# Altium footprint library PCB - LEADLESS - EPC2302.PCBLIB: 1 footprints
Each footprint in its own frame and in the unit in brackets; x right, y up, seen from the top. Pads: shape width x height; smd on the part's side, far side on the other; paste and mask are expansions set on the pad; w line width, h text height; cw(c..) or ccw(c..) is an arc to the next point about the centre after c.
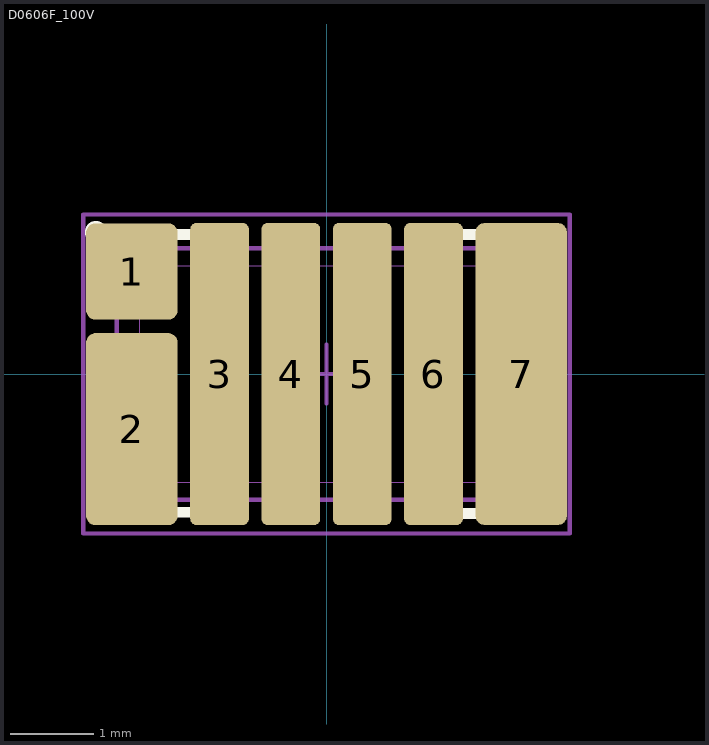
[diagram p0: the footprint, top view; thin cyan lines are the x and y axes]

## D0606F_100V [mm] "QFN3x5 100V Full Die"
height 0.65
pads (34):
  rrect20% 1.091x1.15 smd paste-1 mask-1: 1(-2.321,1.222)
  rrect20% 1.091x2.29 smd paste-1 mask-1: 2(-2.321,-0.658)
  rrect20% 0.7x3.6 smd paste-1 mask-1: 3(-1.275,0) 4(-0.425,0) 5(0.425,0) 6(1.275,0)
  rrect20% 1.091x3.6 smd paste-1 mask-1: 7(2.321,0)
  rrect50% 0.7x0.37 on Top Solder paste-1 mask-1: ""(-2.351,-0.975) ""(-2.351,-0.325) ""(-2.351,0.975) ""(2.351,-0.975) ""(2.351,-0.325) ""(2.351,0.325) ""(2.351,0.975)
  rrect50% 0.76x0.37 on Top Solder paste-1 mask-1: ""(-2.321,0.225)
  rrect50% 0.54x1.78 on Top Paste paste-1 mask-1: ""(-2.275,-0.6)
  rrect50% 0.6x0.72 on Top Paste paste-1 mask-1: ""(-2.275,1.2)
  rrect50% 0.47x2.075 on Top Solder paste-1 mask-1: ""(-2.175,-0.663)
  rrect50% 0.47x0.985 on Top Solder paste-1 mask-1: ""(-2.175,1.207)
  rrect50% 0.26x1.4 on Top Paste paste-1 mask-1: ""(-1.275,-0.85) ""(-1.275,0.85) ""(-0.425,-0.85) ""(-0.425,0.85) ""(0.425,-0.85) ""(0.425,0.85) ""(1.275,-0.85) ""(1.275,0.85)
  rrect50% 0.37x3.4 on Top Solder paste-1 mask-1: ""(-1.275,0) ""(-0.425,0) ""(0.425,0) ""(1.275,0)
  rrect50% 0.47x3.4 on Top Solder paste-1 mask-1: ""(2.175,0)
  rrect50% 0.54x1.4 on Top Paste paste-1 mask-1: ""(2.29,-0.85) ""(2.29,0.85)
Top Overlay:
  circle w0.254: c-2.749,1.69 r0.006
  lines w0.127: -2.722,-1.558 -2.722,-1.273 ; -2.722,1.277 -2.722,1.399 ; -1.794,-1.65 -1.593,-1.65 ; -1.779,1.663 -1.577,1.663 ; 1.577,-1.663 1.778,-1.663 ; 1.577,1.663 1.778,1.663 ; 2.746,-1.646 2.745,-1.302 ; 2.746,1.307 2.746,1.667
Top Assembly:
  lines w0.01: -2.225,-1.29 -2.225,1.29 2.225,1.29 2.225,-1.29 -2.225,-1.29
  lines w0.013: -2.325,1.5 -2.025,1.5 ; -2.235,0.375 -2.115,0.375 ; -2.5,-1.1 -2.4,-1.1 cw(c-2.4,-1.15) -2.35,-1.15 -2.35,-1.5 -2,-1.5 -2,0.275 ccw(c-2.1,0.275) -2.1,0.375 -2.25,0.375 ccw(c-2.25,0.275) -2.316,0.35 -2.5,0.35 -2.5,0.1 -2.4,0.1 cw(c-2.4,0.05) -2.35,0.05 -2.35,-0.15 cw(c-2.4,-0.15) -2.4,-0.2 -2.5,-0.2 -2.5,-0.45 -2.4,-0.45 cw(c-2.4,-0.5) -2.35,-0.5 -2.35,-0.8 cw(c-2.4,-0.8) -2.4,-0.85 -2.5,-0.85 -2.5,-1.1 ; -2.5,0.865 -2.5,1.085 -2.4,1.085 ccw(c-2.4,1.135) -2.35,1.135 -2.35,1.5 -2,1.5 -2,0.94 -2.165,0.775 -2.25,0.775 cw(c-2.25,0.875) -2.349,0.865 -2.5,0.865 ; -2.325,-1.5 -2.025,-1.5 -2.325,-1.5 ; -1.4,-1.5 -1.15,-1.5 -1.15,1.5 -1.4,1.5 -1.4,-1.5 ; -0.55,-1.5 -0.55,1.5 -0.3,1.5 -0.3,-1.5 -0.55,-1.5 ; 0.3,-1.5 0.3,1.5 0.55,1.5 0.55,-1.5 0.3,-1.5 ; 1.15,-1.5 1.15,1.5 1.4,1.5 1.4,-1.5 1.15,-1.5 ; 2,-1.5 2.35,-1.5 2.35,-1.135 cw(c2.385,-1.135) 2.385,-1.1 2.5,-1.1 2.5,-0.85 2.385,-0.85 cw(c2.385,-0.815) 2.35,-0.815 2.35,-0.485 cw(c2.385,-0.485) 2.385,-0.45 2.5,-0.45 2.5,-0.2 2.385,-0.2 cw(c2.385,-0.165) 2.35,-0.165 2.35,0.165 cw(c2.385,0.165) 2.385,0.2 2.5,0.2 2.5,0.45 2.385,0.45 cw(c2.385,0.485) 2.35,0.485 2.35,0.815 cw(c2.385,0.815) 2.385,0.85 2.5,0.85 2.5,1.1 2.385,1.1 cw(c2.385,1.135) 2.35,1.135 2.35,1.5 2,1.5 2,-1.5
  lines w0.05: -2.5,-1.5 -2.5,1.5 2.5,1.5 2.5,-1.5 -2.5,-1.5
Top Courtyard:
  lines w0.05: -2.9,-1.9 -2.9,1.9 2.9,1.9 2.9,-1.9 -2.9,-1.9
Top Designator:
  text ".Designator" at -0.897,-0.298 h0.76
Top Component Center:
  lines w0.05: -0.35,0 0.35,0 ; 0,-0.35 0,0.35
3D body: height 0.25, standoff 0.05, extent -2.5,-1.5 -2,0.375
3D body: height 0.25, standoff 0.05, extent -2.5,0.775 -2,1.5
3D body: height 0.75, standoff 0.75, extent -1.955,0.77 -1.655,1.07
3D body: height 0.25, standoff 0.05, extent -1.4,-1.5 -1.15,1.5
3D body: height 0.25, standoff 0.05, extent -0.55,-1.5 -0.3,1.5
3D body: height 0.65, standoff 0.15, extent -2.475,-1.475 2.472,1.476
3D body: height 0.75, standoff 0.2, extent -2.225,-1.29 2.225,1.29
3D body: height 0.25, standoff 0.05, extent 0.3,-1.5 0.55,1.5
3D body: height 0.25, standoff 0.05, extent 1.15,-1.5 1.4,1.5
3D body: height 0.25, standoff 0.05, extent 2,-1.5 2.5,1.5
3D body "3D_EPClogo4mm.step": height 0.76, standoff 0.75, extent -1.892,-0.875 2.092,0.923